# EAGLE library part USB4155-03-C (library Connectors)
USB3.2 Gen2 Type C Plug, Horizontal, SMT
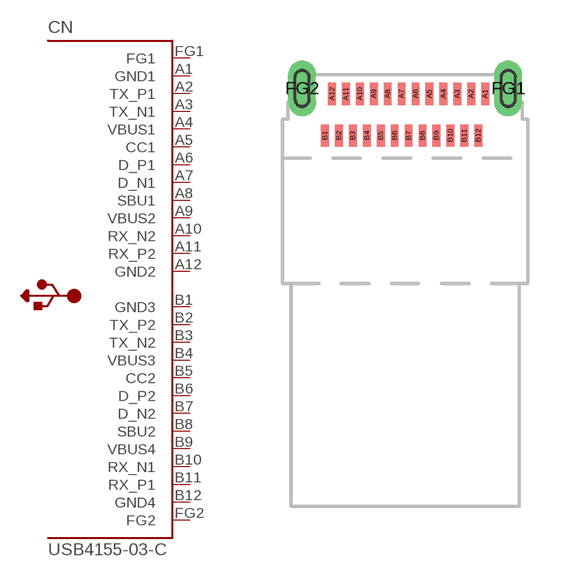
[diagram p11: symbol with the pads of USB4155-03-C; footprint USB4155-03-C]

Designator prefix CN

## USB4155-03-C  [USB4155-03-C]
A1  GND1  pas
A2  TX_P1
A3  TX_N1
A4  VBUS1  pas
A5  CC1  pas
A6  D_P1
A7  D_N1
A8  SBU1  pas
A9  VBUS2  pas
A10  RX_N2
A11  RX_P2
A12  GND2  pas
B1  GND3  pas
B2  TX_P2
B3  TX_N2
B4  VBUS3  pas
B5  CC2  pas
B6  D_P2
B7  D_N2
B8  SBU2  pas
B9  VBUS4  pas
B10  RX_N1
B11  RX_P1
B12  GND4  pas
FG1  FG1  pas
FG2  FG2

## Footprint USB4155-03-C (pad centres in mm)
USB Type-C Plug USB3.2 Gen2 Type C Plug, Horizontal, SMT
smd 0.28 x 0.8: A1 2.875,2.1; A2 2.375,2.1; A3 1.875,2.1; A4 1.375,2.1; A5 0.875,2.1; A6 0.375,2.1; A7 -0.125,2.1; A8 -0.625,2.1; A9 -1.125,2.1; A10 -1.625,2.1; A11 -2.125,2.1; A12 -2.625,2.1; B1 -2.875,0.6; B2 -2.375,0.6; B3 -1.875,0.6; B4 -1.375,0.6; B5 -0.875,0.6; B6 -0.375,0.6; B7 0.125,0.6; B8 0.625,0.6; B9 1.125,0.6; B10 1.625,0.6; B11 2.125,0.6; B12 2.625,0.6
drill 0.5 pad 0.9 long: FG1 3.7,2.3; FG2 -3.7,2.3